# EAGLE library part WM8960CGEFL_V (library WM8960CGEFL_V)
Interface - CODECs Stereo CODEC with 1W DRIVER Source: Datasheet <https://componentsearchengine.com/Datasheets/1/WM8960CGEFL_V.pdf>
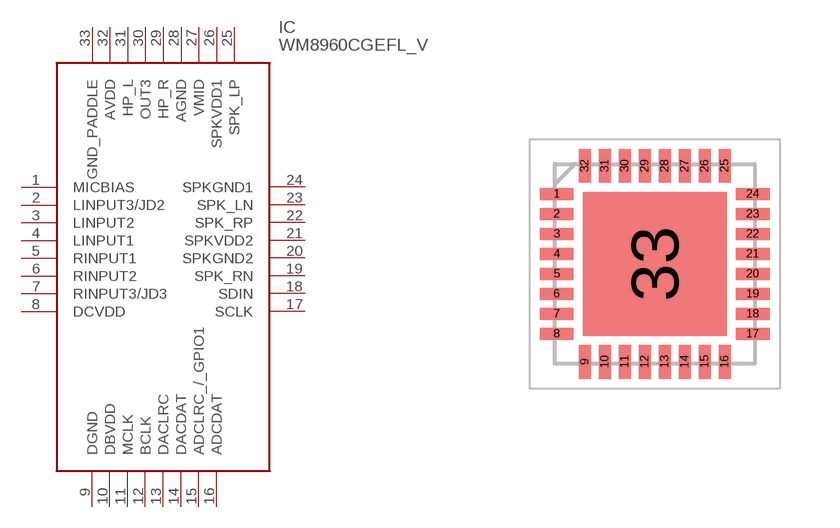
[diagram p0: symbol with the pads of QFN50P500X500X100-33N; footprint QFN50P500X500X100-33N]

Designator prefix IC

## WM8960CGEFL_V (Description: Interface - CODECs Stereo CODEC with 1W DRIVER; Height: 1mm; Manufacturer_Name: Cirrus Logic; Manufacturer_Part_Number: WM8960CGEFL/V; Mouser_Part_Number: 238-WM8960CGEFL/V; Mouser_Price-Stock: https://www.mouser.co.uk/ProductDetail/Cirrus-Logic/WM8960CGEFL-V?qs=G8wrXCBxhFteielmzwPrEw%3D%3D)  [QFN50P500X500X100-33N]
1  MICBIAS
2  LINPUT3/JD2
3  LINPUT2
4  LINPUT1
5  RINPUT1
6  RINPUT2
7  RINPUT3/JD3
8  DCVDD
9  DGND
10  DBVDD
11  MCLK
12  BCLK
13  DACLRC
14  DACDAT
15  ADCLRC_/_GPIO1
16  ADCDAT
17  SCLK
18  SDIN
19  SPK_RN
20  SPKGND2
21  SPKVDD2
22  SPK_RP
23  SPK_LN
24  SPKGND1
25  SPK_LP
26  SPKVDD1
27  VMID
28  AGND
29  HP_R
30  OUT3
31  HP_L
32  AVDD
33  GND_PADDLE

## Footprint QFN50P500X500X100-33N (pad centres in mm)
FL: 32 PIN QFN PLASTIC PACKAGE 5 X 5 X 0.9
smd 0.85 x 0.3: 1 -2.45,1.75; 2 -2.45,1.25; 3 -2.45,0.75; 4 -2.45,0.25; 5 -2.45,-0.25; 6 -2.45,-0.75; 7 -2.45,-1.25; 8 -2.45,-1.75; 17 2.45,-1.75; 18 2.45,-1.25; 19 2.45,-0.75; 20 2.45,-0.25; 21 2.45,0.25; 22 2.45,0.75; 23 2.45,1.25; 24 2.45,1.75
smd 0.3 x 0.85: 9 -1.75,-2.45; 10 -1.25,-2.45; 11 -0.75,-2.45; 12 -0.25,-2.45; 13 0.25,-2.45; 14 0.75,-2.45; 15 1.25,-2.45; 16 1.75,-2.45; 25 1.75,2.45; 26 1.25,2.45; 27 0.75,2.45; 28 0.25,2.45; 29 -0.25,2.45; 30 -0.75,2.45; 31 -1.25,2.45; 32 -1.75,2.45
smd 3.6 x 3.6: 33 0,0